# EAGLE library part 74LVC1G11DW-7 (library 74LVC1G11DW-7)
SINGLE 3 INPUT POSITIVE AND GATE Check availability <https://pricing.snapeda.com/parts/74LVC1G11DW-7/Diodes%20Inc./view-part?ref=eda>
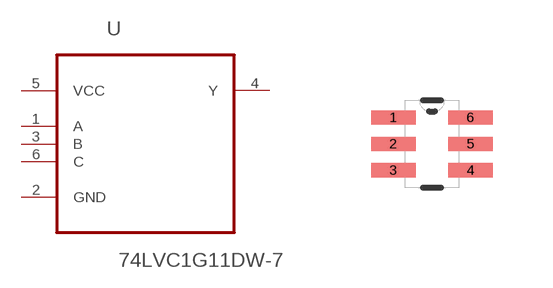
[diagram p0: symbol with the pads of SOT65P210X110-6N; footprint SOT65P210X110-6N]

Designator prefix U

## 74LVC1G11DW-7 (Availability: In Stock; Description: AND Gate IC 1 Channel - SOT-363; MF: Diodes Inc.; MP: 74LVC1G11DW-7; Package: SOT-363 Diodes Inc.; Price: None; Purchase-URL: https://pricing.snapeda.com/search/part/74LVC1G11DW-7/?ref=eda)  [SOT65P210X110-6N]
1  A  in
2  GND  pas
3  B  in
4  Y  out
5  VCC  pwr
6  C  in

## Footprint SOT65P210X110-6N (pad centres in mm)
smd 1.118 x 0.356: 1 -0.965,0.66; 2 -0.965,0; 3 -0.965,-0.66; 4 0.965,-0.66; 5 0.965,0; 6 0.965,0.66